# Altium footprint library 1786918.PcbLib: 1 footprints
Each footprint in its own frame and in the unit in brackets; x right, y up, seen from the top. Pads: shape width x height; smd on the part's side, far side on the other; paste and mask are expansions set on the pad; w line width, h text height; cw(c..) or ccw(c..) is an arc to the next point about the centre after c.
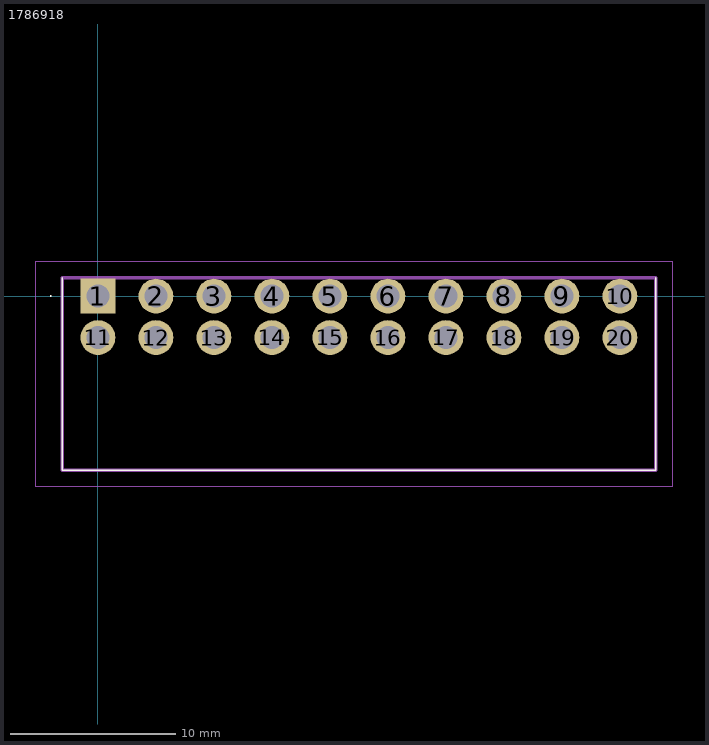
[diagram p0: the footprint, top view; thin cyan lines are the x and y axes]

## 1786918 [mm]
pads (20):
  rect 2.1x2.1 hole 1.4: 1(0,0)
  round 2.1 hole 1.4: 2(3.5,0) 3(7,0) 4(10.5,0) 5(14,0) 6(17.5,0) 7(21,0) 8(24.5,0) 9(28,0) 10(31.5,0) 11(0,-2.5) 12(3.5,-2.5) 13(7,-2.5) 14(10.5,-2.5) 15(14,-2.5) 16(17.5,-2.5) 17(21,-2.5) 18(24.5,-2.5) 19(28,-2.5) 20(31.5,-2.5)
Top Overlay:
  lines w0.05: -2.875,0 -2.875,0 ; -2.875,0 ccw(c-2.85,0) -2.825,0 ; -2.875,0 cw(c-2.85,0) -2.825,0 ; -2.825,0 -2.825,0
  lines w0.1: -2.15,1.1 -2.15,-10.5 33.65,-10.5 33.65,1.1
Mechanical 15:
  lines w0.2: -2.15,-10.5 33.65,-10.5 33.65,1.1 -2.15,1.1 -2.15,-10.5
Mechanical 20:
  lines w0.05: -3.75,-11.5 34.65,-11.5 34.65,2.1 -3.75,2.1 -3.75,-11.5